# Altium schematic symbol library mounting_hole_0.Schlib: 1 symbol
Pins are listed as number, name and electrical type; pins without a type are passive.

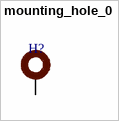
[diagram p0: symbol mounting_hole_0]

## mounting_hole_0
designator H?  (value not drawn)
Mounting hole with connection
pins: 0 A